# EAGLE library part GY-BME280-3.3 (library GY-BME280)
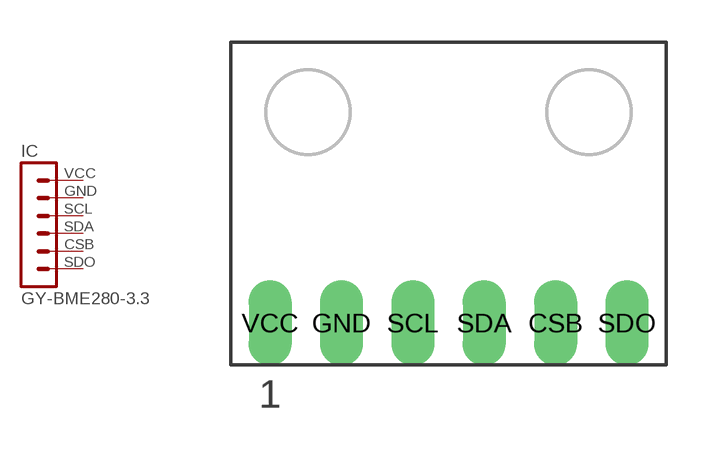
[diagram p0: symbol with the pads of GY-BME280-3.3; footprint GY-BME280-3.3]

Designator prefix IC

## GY-BME280-3.3  [GY-BME280-3.3]
CSB  CSB  pas
GND  GND  pas
SCL  SCL  pas
SDA  SDA  pas
SDO  SDO  pas
VCC  VCC  pas

## Footprint GY-BME280-3.3 (pad centres in mm)
drill 1.016 long: CSB 3.81,0.23; GND -3.81,0.23; SCL -1.27,0.23; SDA 1.27,0.23; SDO 6.35,0.23; VCC -6.35,0.23